# Altium schematic symbol library rohm-memory.SchLib: 1 symbol
Pins are listed as number, name and electrical type; pins without a type are passive.

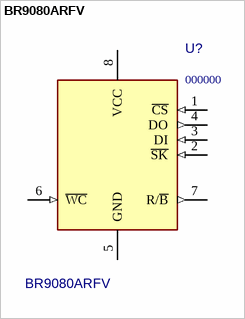
[diagram p0: symbol BR9080ARFV]

## BR9080ARFV
designator U?, comment 000000  value BR9080ARFV
8Kbit Serial EEPROM; PN: 000000; Package: SSOP-B8; ExtraInfo: *
footprint SSOP-B8 (TSOP, 8-Leads, Body 3.2x4.6mm (max), Pitch 0.65mm, IPC High Density)
pins: 1 ~{CS} (in), 2 ~{SK} (in), 3 DI (in), 4 DO (out), 5 GND (power), 6 ~{WC} (in), 7 R/~{B} (out), 8 VCC (power)